# Altium footprint library Passive.PcbLib: 151 footprints (part 3 of 10)
Each footprint in its own frame and in the unit in brackets; x right, y up, seen from the top. Pads: shape width x height; smd on the part's side, far side on the other; paste and mask are expansions set on the pad; w line width, h text height; cw(c..) or ccw(c..) is an arc to the next point about the centre after c.
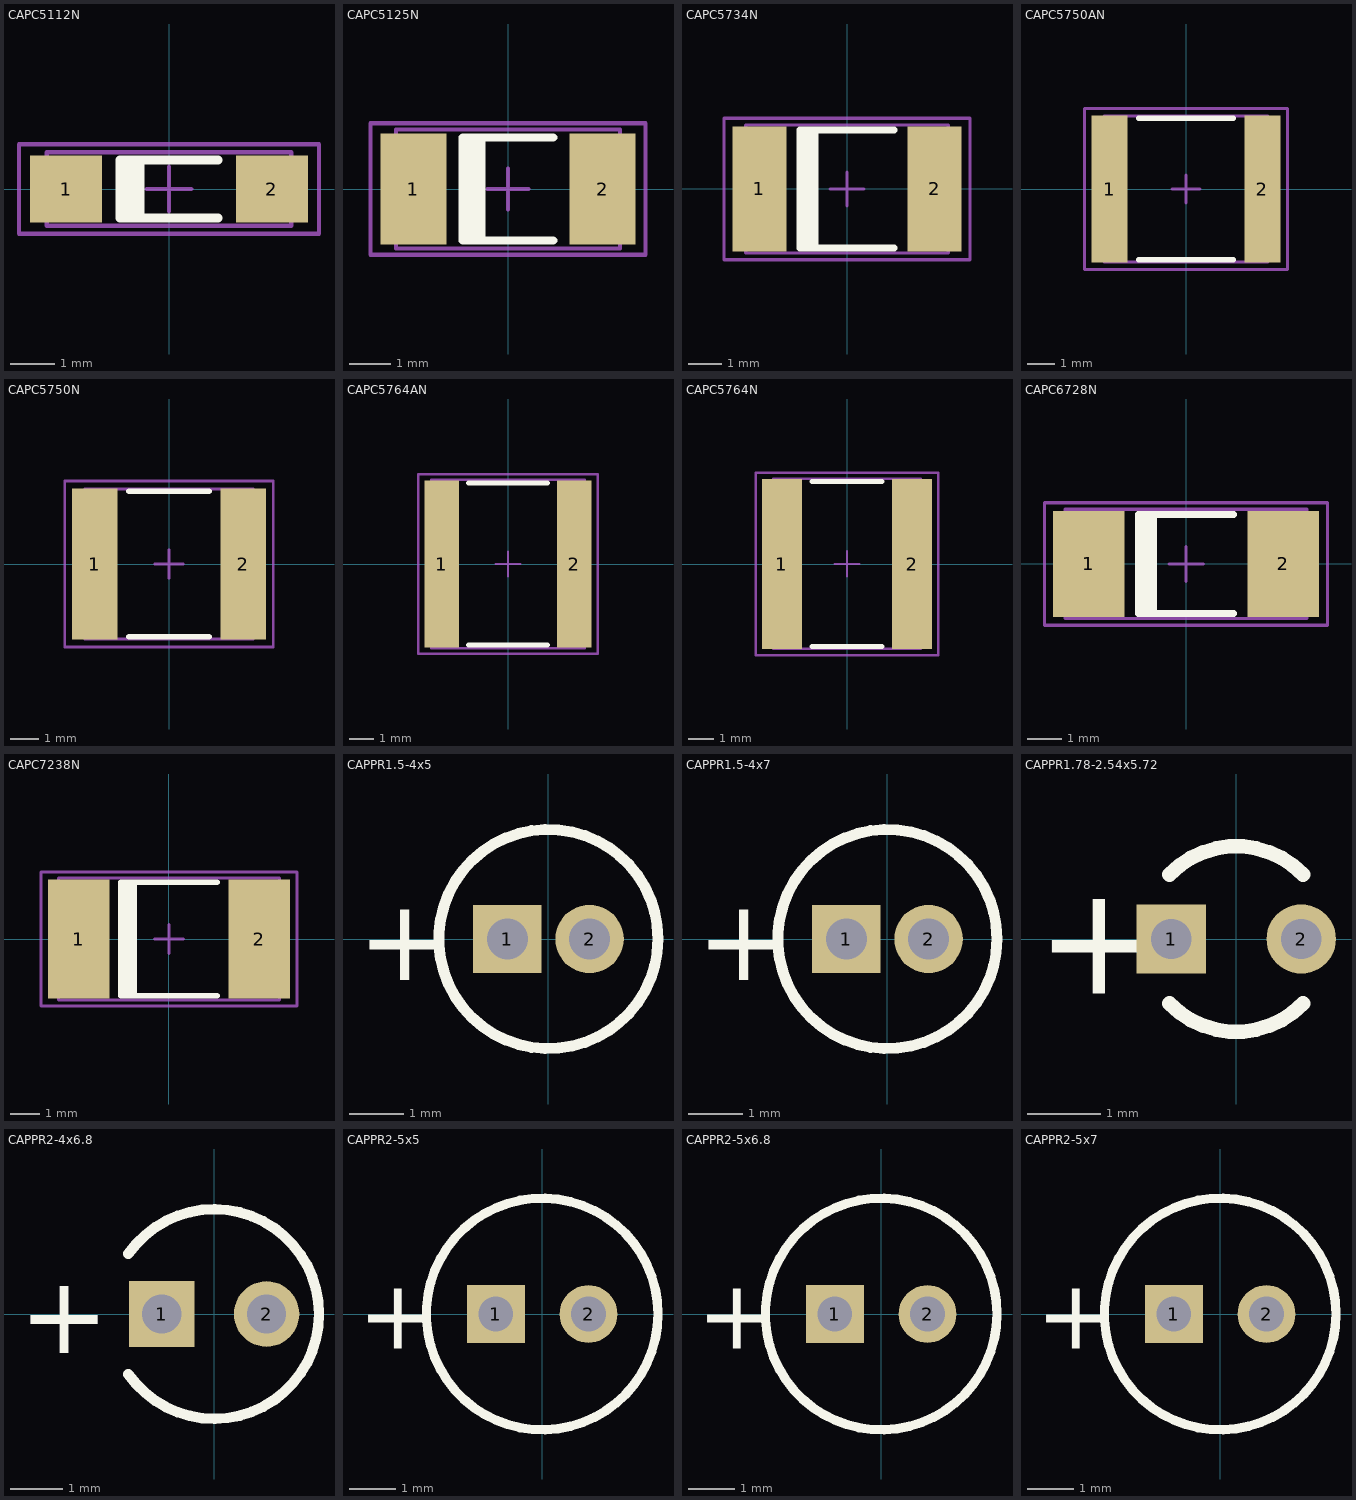
[diagram p2: the footprints below, top view; thin cyan lines are the x and y axes]

## CAPC5112N [mm] "Chip Capacitor, Body 5.08x1.27mm, IPC Medium Density"
height 1.66
pads (2):
  rect 1.6x1.5 smd: 1(-2.3,0) 2(2.3,0)
Top Overlay:
  rectangle: -1.1,-0.65 -0.55,0.65
  lines w0.2: 1.1,-0.65 -1.1,-0.65 -1.1,0.65 1.1,0.65
Mechanical 13:
  lines w0.1: -2.73,-0.825 2.73,-0.825 2.73,0.825 -2.73,0.825 -2.73,-0.825
Mechanical 15:
  lines w0.1: -0.5,0 0.5,0 ; 0,-0.5 0,0.5 ; -3.35,-1 3.35,-1 3.35,1 -3.35,1 -3.35,-1
3D body: height 1.66, standoff 0, extent -2.73,-0.825 2.73,0.825

## CAPC5125N [mm] "Chip Capacitor, Body 5.08x2.54mm, IPC Medium Density"
height 1.66
pads (2):
  rect 1.6x2.7 smd: 1(-2.3,0) 2(2.3,0)
Top Overlay:
  rectangle: -1.1,-1.25 -0.55,1.25
  lines w0.2: 1.1,-1.25 -1.1,-1.25 -1.1,1.25 1.1,1.25
Mechanical 13:
  lines w0.1: -2.73,-1.45 2.73,-1.45 2.73,1.45 -2.73,1.45 -2.73,-1.45
Mechanical 15:
  lines w0.1: -0.5,0 0.5,0 ; 0,-0.5 0,0.5 ; -3.35,-1.6 3.35,-1.6 3.35,1.6 -3.35,1.6 -3.35,-1.6
3D body: height 1.66, standoff 0, extent -2.73,-1.45 2.73,1.45

## CAPC5734N [mm] "Chip Capacitor, Body 5.7x3.4mm, IPC Medium Density"
height 2.16
pads (2):
  rect 1.6x3.7 smd: 1(-2.6,0) 2(2.6,0)
Top Overlay:
  rectangle: -1.4,-1.75 -0.85,1.75
  lines w0.2: 1.4,-1.75 -1.4,-1.75 -1.4,1.75 1.4,1.75
Mechanical 13:
  lines w0.1: -3,-1.9 3,-1.9 3,1.9 -3,1.9 -3,-1.9
Mechanical 15:
  lines w0.1: -0.5,0 0.5,0 ; 0,-0.5 0,0.5 ; -3.65,-2.1 3.65,-2.1 3.65,2.1 -3.65,2.1 -3.65,-2.1
3D body: height 2.16, standoff 0, extent -3,-1.9 3,1.9

## CAPC5750AN [mm] "Chip Capacitor, Body 5.7x5.0mm, IPC Medium Density"
height 1.8
pads (2):
  rect 1.3x5.3 smd: 1(-2.75,0) 2(2.75,0)
Top Overlay:
  lines w0.2: -1.7,-2.55 1.7,-2.55 ; -1.7,2.55 1.7,2.55
Mechanical 13:
  lines w0.1: -2.95,-2.625 -2.95,2.625 2.95,2.625 2.95,-2.625 -2.95,-2.625
Mechanical 15:
  lines w0.1: -0.5,0 0.5,0 ; 0,-0.5 0,0.5 ; -3.65,-2.9 -3.65,2.9 3.65,2.9 3.65,-2.9 -3.65,-2.9
3D body: height 1.8, standoff 0, extent -2.95,-2.625 2.95,2.625

## CAPC5750N [mm] "Chip Capacitor, Body 5.7x5.0mm, IPC Medium Density"
height 1.35
pads (2):
  rect 1.6x5.3 smd: 1(-2.6,0) 2(2.6,0)
Top Overlay:
  lines w0.2: -1.4,-2.55 1.4,-2.55 ; -1.4,2.55 1.4,2.55
Mechanical 13:
  lines w0.1: -2.95,-2.625 -2.95,2.625 2.95,2.625 2.95,-2.625 -2.95,-2.625
Mechanical 15:
  lines w0.1: -0.5,0 0.5,0 ; 0,-0.5 0,0.5 ; -3.65,-2.9 -3.65,2.9 3.65,2.9 3.65,-2.9 -3.65,-2.9
3D body: height 1.35, standoff 0, extent -2.95,-2.625 2.95,2.625

## CAPC5764AN [mm] "Chip Capacitor, Body 5.7x6.4mm, IPC Medium Density"
height 2.03
pads (2):
  rect 1.4x6.8 smd: 1(-2.7,0) 2(2.7,0)
Top Overlay:
  lines w0.2: -1.6,-3.3 1.6,-3.3 ; -1.6,3.3 1.6,3.3
Mechanical 13:
  lines w0.1: -3.115,-3.43 3.115,-3.43 3.115,3.43 -3.115,3.43 -3.115,-3.43
Mechanical 15:
  lines w0.1: -0.5,0 0.5,0 ; 0,-0.5 0,0.5 ; -3.65,-3.65 3.65,-3.65 3.65,3.65 -3.65,3.65 -3.65,-3.65
3D body: height 2.03, standoff 0, extent -3.115,-3.43 3.115,3.43

## CAPC5764N [mm] "Chip Capacitor, Body 5.7x6.4mm, IPC Medium Density"
height 2
pads (2):
  rect 1.6x6.8 smd: 1(-2.6,0) 2(2.6,0)
Top Overlay:
  lines w0.2: -1.4,-3.3 1.4,-3.3 ; -1.4,3.3 1.4,3.3
Mechanical 13:
  lines w0.1: -2.95,-3.4 -2.95,3.4 2.95,3.4 2.95,-3.4 -2.95,-3.4
Mechanical 15:
  lines w0.1: -0.5,0 0.5,0 ; 0,-0.5 0,0.5 ; -3.65,-3.65 -3.65,3.65 3.65,3.65 3.65,-3.65 -3.65,-3.65
3D body: height 2, standoff 0, extent -2.95,-3.4 2.95,3.4

## CAPC6728N [mm] "Chip Capacitor, Body 6.7x2.8mm, IPC Medium Density"
height 3.18
pads (2):
  rect 2.1x3.1 smd: 1(-2.85,0) 2(2.85,0)
Top Overlay:
  rectangle: -1.4,-1.45 -0.85,1.45
  lines w0.2: 1.4,-1.45 -1.4,-1.45 -1.4,1.45 1.4,1.45
Mechanical 13:
  lines w0.1: -3.55,-1.6 3.55,-1.6 3.55,1.6 -3.55,1.6 -3.55,-1.6
Mechanical 15:
  lines w0.1: -0.5,0 0.5,0 ; 0,-0.5 0,0.5 ; -4.15,-1.8 4.15,-1.8 4.15,1.8 -4.15,1.8 -4.15,-1.8
3D body: height 3.18, standoff 0, extent -3.55,-1.6 3.55,1.6

## CAPC7238N [mm] "Chip Capacitor, Body 7.2x3.8mm, IPC Medium Density"
height 3.18
pads (2):
  rect 2.1x4.1 smd: 1(-3.1,0) 2(3.1,0)
Top Overlay:
  rectangle: -1.65,-1.95 -1.1,1.95
  lines w0.2: 1.65,-1.95 -1.65,-1.95 -1.65,1.95 1.65,1.95
Mechanical 13:
  lines w0.1: -3.8,-2.1 -3.8,2.1 3.8,2.1 3.8,-2.1 -3.8,-2.1
Mechanical 15:
  lines w0.1: -0.5,0 0.5,0 ; 0,-0.5 0,0.5 ; -4.4,-2.3 -4.4,2.3 4.4,2.3 4.4,-2.3 -4.4,-2.3
3D body: height 3.18, standoff 0, extent -3.8,-2.1 3.8,2.1

## CAPPR1.5-4x5 [mm] "Capacitor, Electrolytic, Radial; Body 4 x 5 mm (Dia.xH typ); Pin Spacing 1.5 mm (typ)"
height 6
pads (2):
  rect 1.25x1.25 hole 0.75: 1(-0.75,0)
  round 1.25 hole 0.75: 2(0.75,0)
Top Overlay:
  circle w0.2: c0,0 r2
  text "+" at -3.475,-0.75 h1.5

## CAPPR1.5-4x7 [mm] "Capacitor, Electrolytic, Radial; Body 4 x 7 mm (Dia.xH typ); Pin Spacing 1.5 mm (typ)"
height 8
pads (2):
  rect 1.25x1.25 hole 0.75: 1(-0.75,0)
  round 1.25 hole 0.75: 2(0.75,0)
Top Overlay:
  circle w0.2: c0,0 r2
  text "+" at -3.475,-0.75 h1.5

## CAPPR1.78-2.54x5.72 [mm] "Capacitor, Radial, Tantalum; Body 2.54 x 5.72 mm (Dia.xH max); Pin Spacing 1.78 mm (typ)"
height 5.72
pads (2):
  rect 0.95x0.95 hole 0.55: 1(-0.89,0)
  round 0.95 hole 0.55: 2(0.89,0)
Top Overlay:
  lines w0.2: -0.914,-0.882 ccw(c0,0) 0.914,-0.882 ; -0.914,0.882 cw(c0,0) 0.914,0.882
  text "+" at -2.74,-0.75 h1.5

## CAPPR2-4x6.8 [mm] "Capacitor, Electrolytic, Radial; Body 4 x 6.8 mm (Dia.xH typ); Pin Spacing 2 mm (typ)"
height 7.8
pads (2):
  rect 1.25x1.25 hole 0.75: 1(-1,0)
  round 1.25 hole 0.75: 2(1,0)
Top Overlay:
  lines w0.2: -1.638,-1.147 ccw(c0,0) 2,0 ccw(c0,0) -1.638,1.147
  text "+" at -3.725,-0.75 h1.5

## CAPPR2-5x5 [mm] "Capacitor, Electrolytic, Radial; Body 5 x 5 mm (Dia.xH typ); Pin Spacing 2 mm (typ)"
height 6
pads (2):
  rect 1.25x1.25 hole 0.75: 1(-1,0)
  round 1.25 hole 0.75: 2(1,0)
Top Overlay:
  circle w0.2: c0,0 r2.5
  text "+" at -3.975,-0.75 h1.5

## CAPPR2-5x6.8 [mm] "Capacitor, Electrolytic, Radial; Body 5 x 6.8 mm (Dia.xH typ); Pin Spacing 2 mm (typ)"
height 7.8
pads (2):
  rect 1.25x1.25 hole 0.75: 1(-1,0)
  round 1.25 hole 0.75: 2(1,0)
Top Overlay:
  circle w0.2: c0,0 r2.5
  text "+" at -3.975,-0.75 h1.5

## CAPPR2-5x7 [mm] "Capacitor, Electrolytic, Radial; Body 5 x 7 mm (Dia.xH typ); Pin Spacing 2 mm (typ)"
height 8
pads (2):
  rect 1.25x1.25 hole 0.75: 1(-1,0)
  round 1.25 hole 0.75: 2(1,0)
Top Overlay:
  circle w0.2: c0,0 r2.5
  text "+" at -3.975,-0.75 h1.5